# Altium schematic symbol library EMK316BJ106KL8T.SchLib: 1 symbol
Pins are listed as number, name and electrical type; pins without a type are passive.

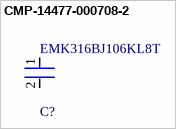
[diagram p0: symbol CMP-14477-000708-2]

## CMP-14477-000708-2
designator C?, comment EMK316BJ106KL8T
None; RoHS Compliant: Yes
footprint FP-1206-L_3_2_0_15-W_1_6-IPC_C
footprint FP-1206-L_3_2_0_15-W_1_6-IPC_A
footprint FP-1206-L_3_2_0_15-W_1_6-IPC_B
footprint FP-1206-L_3_2_0_15-W_1_6-MFG
pins: 1, 2